# Altium footprint library sim800.PcbLib: 20 footprints (part 2 of 2)
Each footprint in its own frame and in the unit in brackets; x right, y up, seen from the top. Pads: shape width x height; smd on the part's side, far side on the other; paste and mask are expansions set on the pad; w line width, h text height; cw(c..) or ccw(c..) is an arc to the next point about the centre after c.
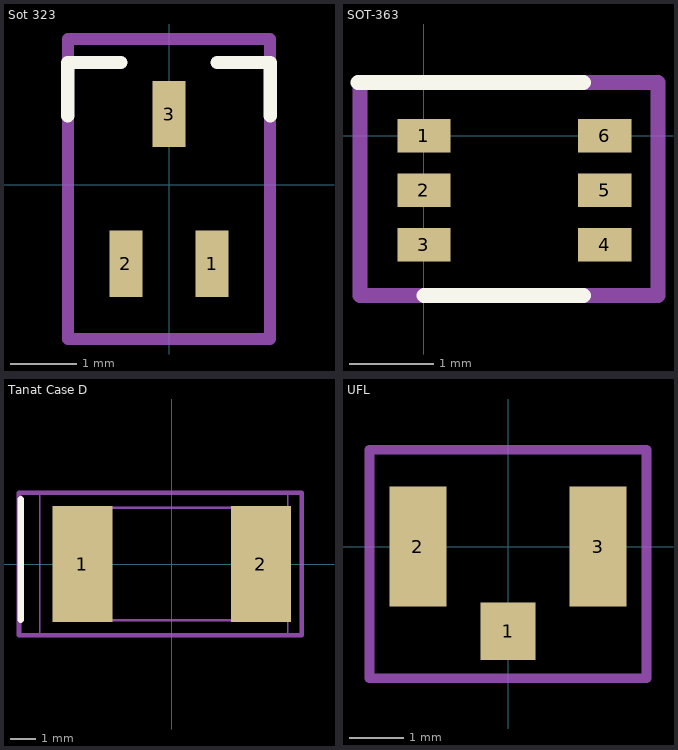
[diagram p1: the footprints below, top view; thin cyan lines are the x and y axes]

## Sot 323 [mm]
height 1.1
pads (3):
  rect 0.5x1 smd: 1(0.65,-1.192) 2(-0.65,-1.192) 3(0,1.067)
Top Overlay:
  lines w0.2: -1.524,1.042 -1.524,1.841 -0.724,1.841 ; 0.724,1.841 1.524,1.841 1.524,1.042
Top Assembly:
  lines w0.178: -1.524,-2.324 -1.524,2.197 1.524,2.197 1.524,-2.324 -1.524,-2.324
  text "'.Designator'" at 0,-2.095 h0.6
3D body "SOT323 (SC70-3).STEP": height 1.1, standoff 0, extent -1.1,-1.186 1.1,1.059

## SOT-363 [mm]
pads (6):
  rect 0.635x0.4 smd: 1(0,0) 2(0,-0.65) 3(0,-1.3) 4(2.159,-1.3) 5(2.159,-0.65) 6(2.159,0)
Top Overlay:
  lines w0.178: -0.787,0.635 1.905,0.635 ; 0,-1.905 1.905,-1.905
Top Assembly:
  lines w0.178: -0.762,-1.905 2.794,-1.905 2.794,0.635 -0.762,0.635 -0.762,-1.905
  text "'.Designator'" at 1.27,-1.778 h0.6
3D body "SOT363.step": height 1.1, standoff 0, extent -0.12,-1.75 2.28,0.45

## Tanat Case D [mm]
height 2.8
pads (2):
  rect 2.35x4.55 smd: 1(-3.487,0) 2(3.488,0)
Top Overlay:
  lines w0.254: -5.9,-2.175 -5.9,2.54
Top Assembly:
  lines w0.178: -5.969,-2.794 -5.969,2.794 5.08,2.794 5.08,-2.794 -5.969,-2.794
  text "'.Designator'" at -5.842,0.127 h0.6
Mechanical 13:
  lines w0.1: -4.112,-2.2 3.488,-2.2 3.488,2.2 -4.112,2.2 -4.112,-2.2
Mechanical 15:
  lines w0.05: -5.162,-2.8 4.538,-2.8 4.538,2.8 -5.162,2.8 -5.162,-2.8
3D body "User Library-CAP_TANT_7343-31.step": height 3.1, standoff 0, extent -3.8,-2.3 3.8,2.3

## UFL [mm]
pads (3):
  rect 1x1.05 smd: 1(0,-1.55)
  rect 1.05x2.2 smd: 2(-1.651,0) 3(1.651,0)
Top Assembly:
  lines w0.178: -2.54,-2.413 -2.54,1.778 2.54,1.778 2.54,-2.413 -2.54,-2.413
  text "'.Designator'" at -2.032,-0.508 h0.6
3D body "User Library-UFL-R-SMD.STEP": height 1.25, standoff 0, extent -1.7,-1.55 1.7,1.55